# Altium integrated library V890-1AX1-A1(GST5009).IntLib: 1 symbol
Pins are listed as number, name and electrical type; pins without a type are passive.

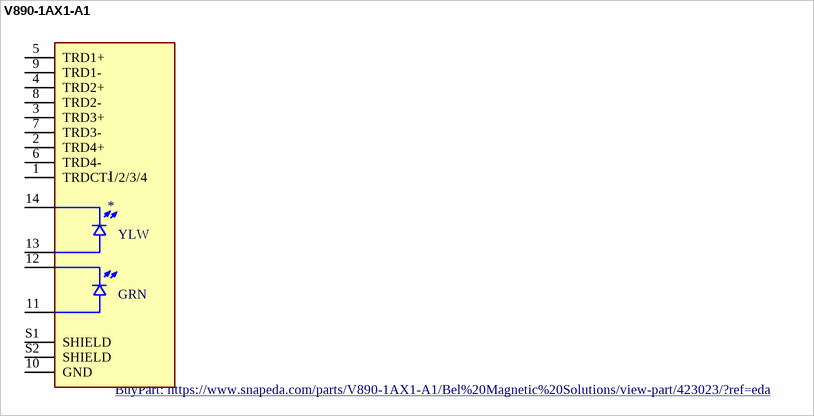
[diagram p0: symbol V890-1AX1-A1]

## V890-1AX1-A1
designator J
MagJack 1000BaseT | 1X1 | G/Y | Vertical | RoHS; MF: Bel Magnetic Solutions; MP: V890-1AX1-A1; Value: *; Mouser-Purchase-URL: https://snapeda.com/shop?store=Mouser&id=423023; Package: None; Digi-Key_Part_Number: V890-1AX1-A1A-ND; SnapEDA_Link: https://www.snapeda.com/parts/V890-1AX1-A1/Bel%20Magnetic%20Solutions/view-part/423023/?ref=snap; BuyPart: https://www.snapeda.com/parts/V890-1AX1-A1/Bel%20Magnetic%20Solutions/view-part/423023/?ref=eda
footprint BEL_V890-1AX1-A1
pins: 1 TRDCT1/2/3/4, 2 TRD4+, 3 TRD3+, 4 TRD2+, 5 TRD1+, 6 TRD4-, 7 TRD3-, 8 TRD2-, 9 TRD1-, 10 GND (power), 11, 12, 13, 14, S1 SHIELD, S2 SHIELD
text: YLW; GRN